# Altium integrated library Lattice SC FPGA.IntLib: 396 symbols (part 1 of 3)
Pins are listed as number, name and electrical type; pins without a type are passive.

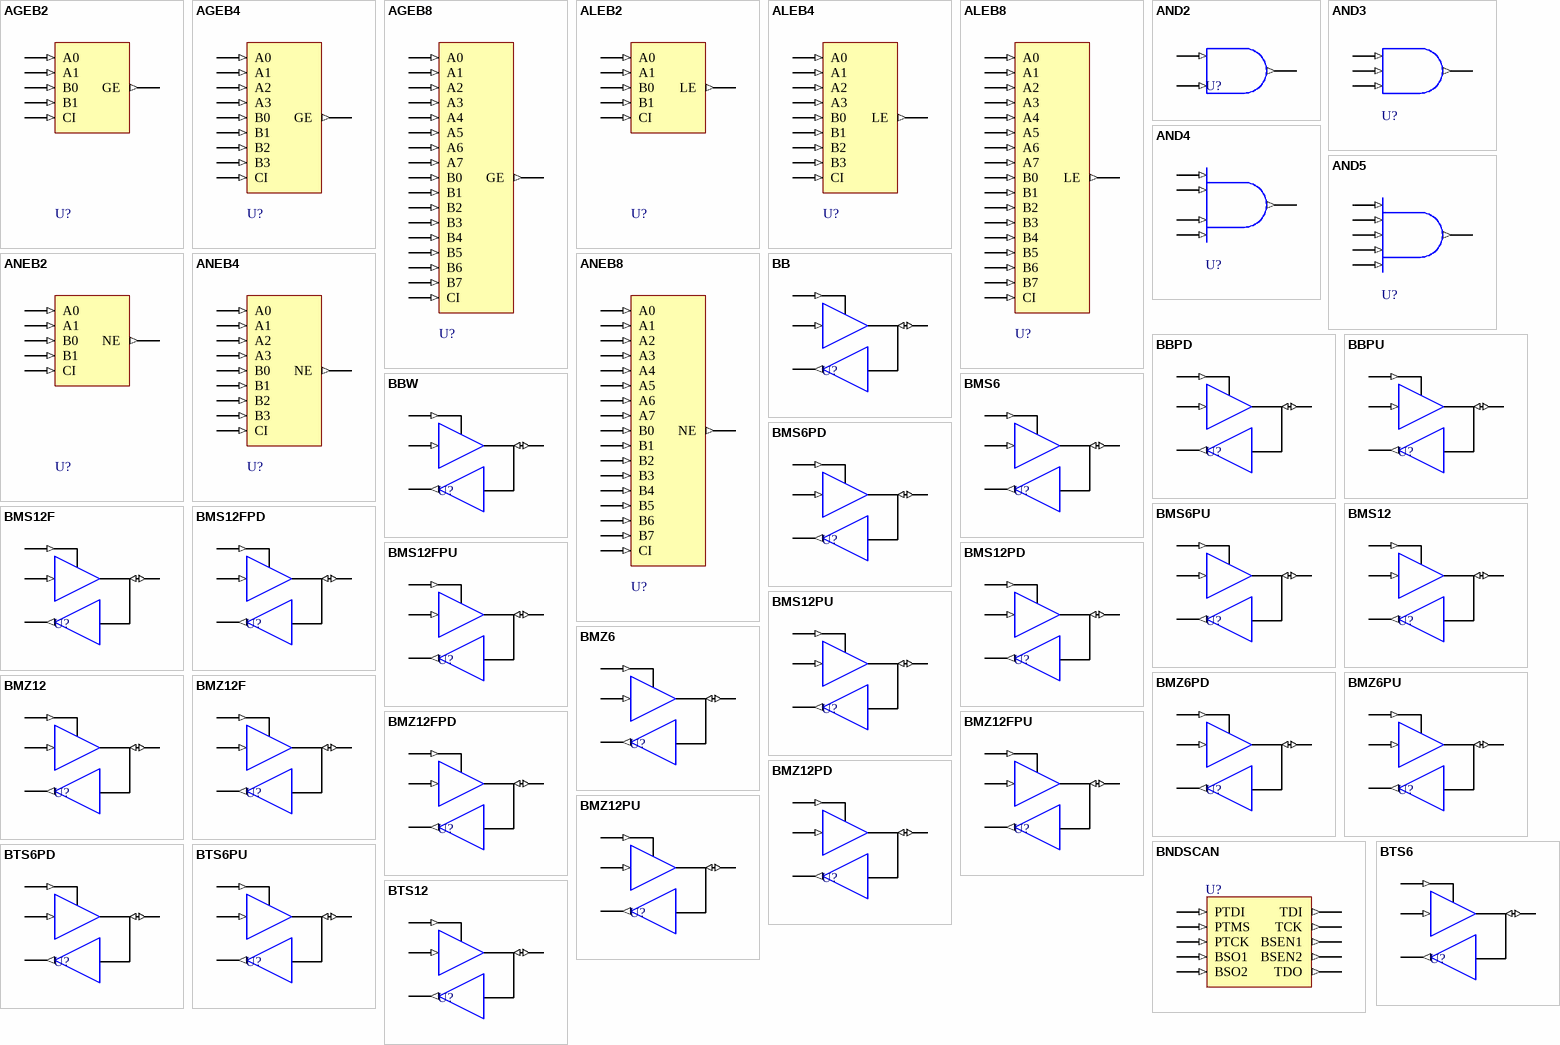
[diagram p0: symbols AGEB2 to BTS12]

## AGEB2
designator U?
“A” Greater Than Or Equal To “B” (2 bit); FPGAVendor: Lattice; Published: 4-May-2007; Publisher: Altium Limited; HelpURL: http://www.latticesemi.com/lit/docs/manuals/library.pdf
pins: A0 (in), A1 (in), B0 (in), B1 (in), CI (in), GE (out)

## AGEB4
designator U?
"A" Greater Than Or Equal To "B" (4 Bit); FPGAVendor: Lattice; Published: 4-May-2007; Publisher: Altium Limited; HelpURL: http://www.latticesemi.com/lit/docs/manuals/library.pdf
pins: A0 (in), A1 (in), A2 (in), A3 (in), B0 (in), B1 (in), B2 (in), B3 (in), CI (in), GE (out)

## AGEB8
designator U?
"A" Greater Than Or Equal To "B" (8 Bit); FPGAVendor: Lattice; Published: 4-May-2007; Publisher: Altium Limited; HelpURL: http://www.latticesemi.com/lit/docs/manuals/library.pdf
pins: A0 (in), A1 (in), A2 (in), A3 (in), A4 (in), A5 (in), A6 (in), A7 (in), B0 (in), B1 (in), B2 (in), B3 (in), B4 (in), B5 (in), B6 (in), B7 (in), CI (in), GE (out)

## ALEB2
designator U?
"A” Less Than Or Equal To "B” (2 bit); FPGAVendor: Lattice; Published: 4-May-2007; Publisher: Altium Limited; HelpURL: http://www.latticesemi.com/lit/docs/manuals/library.pdf
pins: A0 (in), A1 (in), B0 (in), B1 (in), CI (in), LE (out)

## ALEB4
designator U?
"A” Less Than Or Equal To "B” (4 bit); FPGAVendor: Lattice; Published: 4-May-2007; Publisher: Altium Limited; HelpURL: http://www.latticesemi.com/lit/docs/manuals/library.pdf
pins: A0 (in), A1 (in), A2 (in), A3 (in), B0 (in), B1 (in), B2 (in), B3 (in), CI (in), LE (out)

## ALEB8
designator U?
"A” Less Than Or Equal To "B” (8 bit); FPGAVendor: Lattice; Published: 4-May-2007; Publisher: Altium Limited; HelpURL: http://www.latticesemi.com/lit/docs/manuals/library.pdf
pins: A0 (in), A1 (in), A2 (in), A3 (in), A4 (in), A5 (in), A6 (in), A7 (in), B0 (in), B1 (in), B2 (in), B3 (in), B4 (in), B5 (in), B6 (in), B7 (in), CI (in), LE (out)

## AND2
designator U?
2 Input AND Gate; FPGAVendor: Lattice; Published: 4-May-2007; Publisher: Altium Limited; HelpURL: http://www.latticesemi.com/lit/docs/manuals/library.pdf
pins: A (in), B (in), Z (out)

## AND3
designator U?
3 Input AND Gate; FPGAVendor: Lattice; Published: 4-May-2007; Publisher: Altium Limited; HelpURL: http://www.latticesemi.com/lit/docs/manuals/library.pdf
pins: A (in), B (in), C (in), Z (out)

## AND4
designator U?
4 Input AND Gate; FPGAVendor: Lattice; Published: 4-May-2007; Publisher: Altium Limited; HelpURL: http://www.latticesemi.com/lit/docs/manuals/library.pdf
pins: A (in), B (in), C (in), D (in), Z (out)

## AND5
designator U?
5 Input AND Gate; FPGAVendor: Lattice; Published: 4-May-2007; Publisher: Altium Limited; HelpURL: http://www.latticesemi.com/lit/docs/manuals/library.pdf
pins: A (in), B (in), C (in), D (in), E (in), Z (out)

## ANEB2
designator U?
"A” Not Equal To "B” (2 bit); FPGAVendor: Lattice; Published: 4-May-2007; Publisher: Altium Limited; HelpURL: http://www.latticesemi.com/lit/docs/manuals/library.pdf
pins: A0 (in), A1 (in), B0 (in), B1 (in), CI (in), NE (out)

## ANEB4
designator U?
"A” Not Equal To "B” (4 bit); FPGAVendor: Lattice; Published: 4-May-2007; Publisher: Altium Limited; HelpURL: http://www.latticesemi.com/lit/docs/manuals/library.pdf
pins: A0 (in), A1 (in), A2 (in), A3 (in), B0 (in), B1 (in), B2 (in), B3 (in), CI (in), NE (out)

## ANEB8
designator U?
"A” Not Equal To "B” (8 bit); FPGAVendor: Lattice; Published: 4-May-2007; Publisher: Altium Limited; HelpURL: http://www.latticesemi.com/lit/docs/manuals/library.pdf
pins: A0 (in), A1 (in), A2 (in), A3 (in), A4 (in), A5 (in), A6 (in), A7 (in), B0 (in), B1 (in), B2 (in), B3 (in), B4 (in), B5 (in), B6 (in), B7 (in), CI (in), NE (out)

## BB
designator U?
CMOS Input 6mA Sink 3mA Source Sinklim Output Buffer with Tristate – BiDirectional; FPGAVendor: Lattice; Published: 4-May-2007; Publisher: Altium Limited; HelpURL: http://www.latticesemi.com/lit/docs/manuals/library.pdf
pins: B (io), I (in), O (out), T (in)

## BBPD
designator U?
CMOS Input 6mA Sink 3mA Source Sinklim Output Buffer with Tristate and Pull-down – BiDirectional; FPGAVendor: Lattice; Published: 4-May-2007; Publisher: Altium Limited; HelpURL: http://www.latticesemi.com/lit/docs/manuals/library.pdf
pins: B (io), I (in), O (out), T (in)

## BBPU
designator U?
CMOS Input 6mA Sink 3mA Source Sinklim Output Buffer with Tristate and Pull-up – BiDirectional; FPGAVendor: Lattice; Published: 4-May-2007; Publisher: Altium Limited; HelpURL: http://www.latticesemi.com/lit/docs/manuals/library.pdf
pins: B (io), I (in), O (out), T (in)

## BBW
designator U?
CMOS Input 6mA Sink 3mA Source Sinklim Output Buffer with Tristate – BiDirectional in keepermode; FPGAVendor: Lattice; Published: 4-May-2007; Publisher: Altium Limited; HelpURL: http://www.latticesemi.com/lit/docs/manuals/library.pdf
pins: B (io), I (in), O (out), T (in)

## BMS6
designator U?
CMOS Delayed Input 6mA Sink 3mA Source Sinklim Output Buffer with Tristate – BiDirectional; FPGAVendor: Lattice; Published: 4-May-2007; Publisher: Altium Limited; HelpURL: http://www.latticesemi.com/lit/docs/manuals/library.pdf
pins: B (io), I (in), O (out), T (in)

## BMS6PD
designator U?
CMOS Delayed Input 6mA Sink 3mA Source Sinklim Output Buffer with Tristate and Pull-down – BiDirectional; FPGAVendor: Lattice; Published: 4-May-2007; Publisher: Altium Limited; HelpURL: http://www.latticesemi.com/lit/docs/manuals/library.pdf
pins: B (io), I (in), O (out), T (in)

## BMS6PU
designator U?
CMOS Delayed Input 6mA Sink 3mA Source Sinklim Output Buffer with Tristate and Pull-up – BiDirectional; FPGAVendor: Lattice; Published: 4-May-2007; Publisher: Altium Limited; HelpURL: http://www.latticesemi.com/lit/docs/manuals/library.pdf
pins: B (io), I (in), O (out), T (in)

## BMS12
designator U?
CMOS Delayed Input 12mA Sink 6mA Source Slewlim Output Buffer with Tristate – BiDirectional; FPGAVendor: Lattice; Published: 4-May-2007; Publisher: Altium Limited; HelpURL: http://www.latticesemi.com/lit/docs/manuals/library.pdf
pins: B (io), I (in), O (out), T (in)

## BMS12F
designator U?
CMOS Delayed Input 12mA Sink 6mA Source Fast Output Buffer with Tristate – BiDirectional; FPGAVendor: Lattice; Published: 4-May-2007; Publisher: Altium Limited; HelpURL: http://www.latticesemi.com/lit/docs/manuals/library.pdf
pins: B (io), I (in), O (out), T (in)

## BMS12FPD
designator U?
CMOS Delayed Input 12mA Sink 6mA Source Fast Output Buffer with Tristate and Pull-down – BiDirectional; FPGAVendor: Lattice; Published: 4-May-2007; Publisher: Altium Limited; HelpURL: http://www.latticesemi.com/lit/docs/manuals/library.pdf
pins: B (io), I (in), O (out), T (in)

## BMS12FPU
designator U?
CMOS Delayed Input 12mA Sink 6mA Source Fast Output Buffer with Tristate and Pull-up – BiDirectional; FPGAVendor: Lattice; Published: 4-May-2007; Publisher: Altium Limited; HelpURL: http://www.latticesemi.com/lit/docs/manuals/library.pdf
pins: B (io), I (in), O (out), T (in)

## BMS12PD
designator U?
CMOS Delayed Input 12mA Sink 6mA Source Slewlim Output Buffer with Tristate and Pull-down – BiDirectional; FPGAVendor: Lattice; Published: 4-May-2007; Publisher: Altium Limited; HelpURL: http://www.latticesemi.com/lit/docs/manuals/library.pdf
pins: B (io), I (in), O (out), T (in)

## BMS12PU
designator U?
CMOS Delayed Input 12mA Sink 6mA Source Slewlim Output Buffer with Tristate and Pull-up – BiDirectional; FPGAVendor: Lattice; Published: 4-May-2007; Publisher: Altium Limited; HelpURL: http://www.latticesemi.com/lit/docs/manuals/library.pdf
pins: B (io), I (in), O (out), T (in)

## BMZ6
designator U?
CMOS Input 6mA Sink 3mA Source Sinklim Output Buffer with Tristate – BiDirectional; FPGAVendor: Lattice; Published: 4-May-2007; Publisher: Altium Limited; HelpURL: http://www.latticesemi.com/lit/docs/manuals/library.pdf
pins: B (io), I (in), O (out), T (in)

## BMZ6PD
designator U?
CMOS Input 6mA Sink 3mA Source Sinklim Output Buffer with Tristate and Pull-down – BiDirectional; FPGAVendor: Lattice; Published: 4-May-2007; Publisher: Altium Limited; HelpURL: http://www.latticesemi.com/lit/docs/manuals/library.pdf
pins: B (io), I (in), O (out), T (in)

## BMZ6PU
designator U?
CMOS Input 6mA Sink 3mA Source Sinklim Output Buffer with Tristate and Pull-up – BiDirectional; FPGAVendor: Lattice; Published: 4-May-2007; Publisher: Altium Limited; HelpURL: http://www.latticesemi.com/lit/docs/manuals/library.pdf
pins: B (io), I (in), O (out), T (in)

## BMZ12
designator U?
CMOS Input 12mA Sink 6mA Source Slewlim Output Buffer with Tristate – BiDirectional; FPGAVendor: Lattice; Published: 4-May-2007; Publisher: Altium Limited; HelpURL: http://www.latticesemi.com/lit/docs/manuals/library.pdf
pins: B (io), I (in), O (out), T (in)

## BMZ12F
designator U?
CMOS Input 12mA Sink 6mA Source Fast Output Buffer with Tristate – BiDirectional; FPGAVendor: Lattice; Published: 4-May-2007; Publisher: Altium Limited; HelpURL: http://www.latticesemi.com/lit/docs/manuals/library.pdf
pins: B (io), I (in), O (out), T (in)

## BMZ12FPD
designator U?
CMOS Input 12mA Sink 6mA Source Fast Output Buffer with Tristate and Pull-down – BiDirectional; FPGAVendor: Lattice; Published: 4-May-2007; Publisher: Altium Limited; HelpURL: http://www.latticesemi.com/lit/docs/manuals/library.pdf
pins: B (io), I (in), O (out), T (in)

## BMZ12FPU
designator U?
CMOS Input 12mA Sink 6mA Source Fast Output Buffer with Tristate and Pull-up – BiDirectional; FPGAVendor: Lattice; Published: 4-May-2007; Publisher: Altium Limited; HelpURL: http://www.latticesemi.com/lit/docs/manuals/library.pdf
pins: B (io), I (in), O (out), T (in)

## BMZ12PD
designator U?
CMOS Input 12mA Sink 6mA Source Slewlim Output Buffer with Tristate and Pull-down – BiDirectional; FPGAVendor: Lattice; Published: 4-May-2007; Publisher: Altium Limited; HelpURL: http://www.latticesemi.com/lit/docs/manuals/library.pdf
pins: B (io), I (in), O (out), T (in)

## BMZ12PU
designator U?
CMOS Input 12mA Sink 6mA Source Slewlim Output Buffer with Tristate and Pull-up –BiDirectional; FPGAVendor: Lattice; Published: 4-May-2007; Publisher: Altium Limited; HelpURL: http://www.latticesemi.com/lit/docs/manuals/library.pdf
pins: B (io), I (in), O (out), T (in)

## BNDSCAN
designator U?
Boundary Scan — Logic Control Circuit; FPGAVendor: Lattice; Published: 4-May-2007; Publisher: Altium Limited; HelpURL: http://www.latticesemi.com/lit/docs/manuals/library.pdf
pins: BSEN1 (out), BSEN2 (out), BSO1 (in), BSO2 (in), PTCK (in), PTDI (in), PTMS (in), TCK (out), TDI (out), TDO (out)

## BTS6
designator U?
TTL Delayed Input 6mA Sink 3mA Source Sinklim Output Buffer with Tristate – BiDirectional; FPGAVendor: Lattice; Published: 4-May-2007; Publisher: Altium Limited; HelpURL: http://www.latticesemi.com/lit/docs/manuals/library.pdf
pins: B (io), I (in), O (out), T (in)

## BTS6PD
designator U?
TTL Delayed Input 6mA Sink 3mA Source Sinklim Output Buffer with Tristate and Pull-down – BiDirectional; FPGAVendor: Lattice; Published: 4-May-2007; Publisher: Altium Limited; HelpURL: http://www.latticesemi.com/lit/docs/manuals/library.pdf
pins: B (io), I (in), O (out), T (in)

## BTS6PU
designator U?
TTL Delayed Input 6mA Sink 3mA Source Sinklim Output Buffer with Tristate and Pull-up – BiDirectional; FPGAVendor: Lattice; Published: 4-May-2007; Publisher: Altium Limited; HelpURL: http://www.latticesemi.com/lit/docs/manuals/library.pdf
pins: B (io), I (in), O (out), T (in)

## BTS12
designator U?
TTL Delayed Input 12mA Sink 6mA Source Slewlim Output Buffer with Tristate – BiDirectional; FPGAVendor: Lattice; Published: 4-May-2007; Publisher: Altium Limited; HelpURL: http://www.latticesemi.com/lit/docs/manuals/library.pdf
pins: B (io), I (in), O (out), T (in)

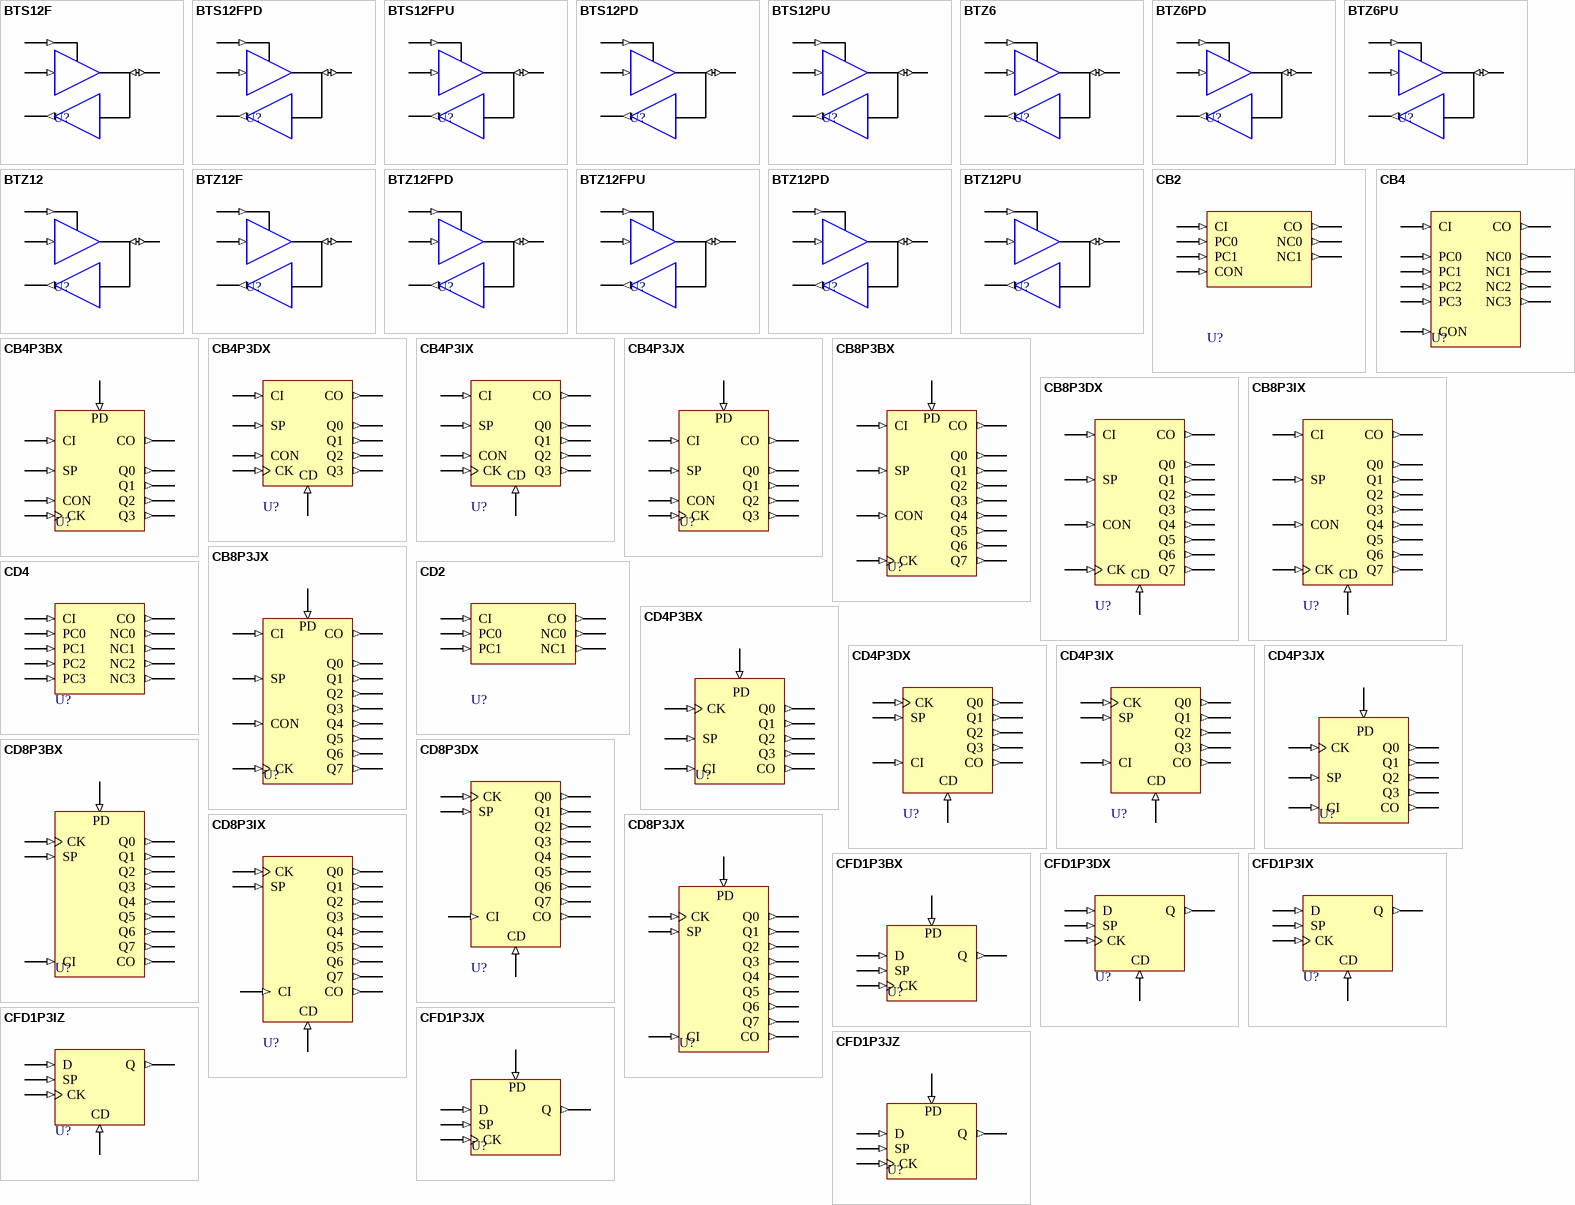
[diagram p1: symbols BTS12F to CFD1P3JZ]

## BTS12F
designator U?
TTL Delayed Input 12mA Sink 6mA Source Fast Output Buffer with Tristate – BiDirectional; FPGAVendor: Lattice; Published: 4-May-2007; Publisher: Altium Limited; HelpURL: http://www.latticesemi.com/lit/docs/manuals/library.pdf
pins: B (io), I (in), O (out), T (in)

## BTS12FPD
designator U?
TTL Delayed Input 12mA Sink 6mA Source Fast Output Buffer with Tristate and Pull-down – BiDirectional; FPGAVendor: Lattice; Published: 4-May-2007; Publisher: Altium Limited; HelpURL: http://www.latticesemi.com/lit/docs/manuals/library.pdf
pins: B (io), I (in), O (out), T (in)

## BTS12FPU
designator U?
TTL Delayed Input 12mA Sink 6mA Source Fast Output Buffer with Tristate and Pull-up – BiDirectional; FPGAVendor: Lattice; Published: 4-May-2007; Publisher: Altium Limited; HelpURL: http://www.latticesemi.com/lit/docs/manuals/library.pdf
pins: B (io), I (in), O (out), T (in)

## BTS12PD
designator U?
TTL Delayed Input 12mA Sink 6mA Source Slewlim Output Buffer with Tristate and Pull-down – BiDirectional; FPGAVendor: Lattice; Published: 4-May-2007; Publisher: Altium Limited; HelpURL: http://www.latticesemi.com/lit/docs/manuals/library.pdf
pins: B (io), I (in), O (out), T (in)

## BTS12PU
designator U?
TTL Delayed Input 12mA Sink 6mA Source Slewlim Output Buffer with Tristate and Pull-up – BiDirectional; FPGAVendor: Lattice; Published: 4-May-2007; Publisher: Altium Limited; HelpURL: http://www.latticesemi.com/lit/docs/manuals/library.pdf
pins: B (io), I (in), O (out), T (in)

## BTZ6
designator U?
TTL Input 6mA Sink 3mA Source Sinklim Output Buffer with Tristate – BiDirectional; FPGAVendor: Lattice; Published: 4-May-2007; Publisher: Altium Limited; HelpURL: http://www.latticesemi.com/lit/docs/manuals/library.pdf
pins: B (io), I (in), O (out), T (in)

## BTZ6PD
designator U?
TTL Input 6mA Sink 3mA Source Sinklim Output Buffer with Tristate and Pull-down – BiDirectional; FPGAVendor: Lattice; Published: 4-May-2007; Publisher: Altium Limited; HelpURL: http://www.latticesemi.com/lit/docs/manuals/library.pdf
pins: B (io), I (in), O (out), T (in)

## BTZ6PU
designator U?
TTL Input 6mA Sink 3mA Source Sinklim Output Buffer with Tristate and Pull-up – BiDirectional; FPGAVendor: Lattice; Published: 4-May-2007; Publisher: Altium Limited; HelpURL: http://www.latticesemi.com/lit/docs/manuals/library.pdf
pins: B (io), I (in), O (out), T (in)

## BTZ12
designator U?
TTL Input 12mA Sink 6mA Source Slewlim Output Buffer with Tristate – BiDirectional; FPGAVendor: Lattice; Published: 4-May-2007; Publisher: Altium Limited; HelpURL: http://www.latticesemi.com/lit/docs/manuals/library.pdf
pins: B (io), I (in), O (out), T (in)

## BTZ12F
designator U?
TTL Input 12mA Sink 6mA Source Fast Output Buffer with Tristate – BiDirectional; FPGAVendor: Lattice; Published: 4-May-2007; Publisher: Altium Limited; HelpURL: http://www.latticesemi.com/lit/docs/manuals/library.pdf
pins: B (io), I (in), O (out), T (in)

## BTZ12FPD
designator U?
TTL Input 12mA Sink 6mA Source Fast Output Buffer with Tristate and Pull-down – BiDirectional; FPGAVendor: Lattice; Published: 4-May-2007; Publisher: Altium Limited; HelpURL: http://www.latticesemi.com/lit/docs/manuals/library.pdf
pins: B (io), I (in), O (out), T (in)

## BTZ12FPU
designator U?
TTL Input 12mA Sink 6mA Source Fast Output Buffer with Tristate and Pull-up – BiDirectional; FPGAVendor: Lattice; Published: 4-May-2007; Publisher: Altium Limited; HelpURL: http://www.latticesemi.com/lit/docs/manuals/library.pdf
pins: B (io), I (in), O (out), T (in)

## BTZ12PD
designator U?
TTL Input 12mA Sink 6mA Source Slewlim Output Buffer with Tristate and Pull-down – BiDirectional; FPGAVendor: Lattice; Published: 4-May-2007; Publisher: Altium Limited; HelpURL: http://www.latticesemi.com/lit/docs/manuals/library.pdf
pins: B (io), I (in), O (out), T (in)

## BTZ12PU
designator U?
TTL Input 12mA Sink 6mA Source Slewlim Output Buffer with Tristate and Pull-up– BiDirectional; FPGAVendor: Lattice; Published: 4-May-2007; Publisher: Altium Limited; HelpURL: http://www.latticesemi.com/lit/docs/manuals/library.pdf
pins: B (io), I (in), O (out), T (in)

## CB2
designator U?
Combinational Logic for 2-Bit Bidirectional Counter using Look-Up Table; FPGAVendor: Lattice; Published: 4-May-2007; Publisher: Altium Limited; HelpURL: http://www.latticesemi.com/lit/docs/manuals/library.pdf
pins: CI (in), CO (out), CON (in), NC0 (out), NC1 (out), PC0 (in), PC1 (in)

## CB4
designator U?
Combinational Logic for 4 Bit Bidirectional Counter using Look-Up Table; FPGAVendor: Lattice; Published: 4-May-2007; Publisher: Altium Limited; HelpURL: http://www.latticesemi.com/lit/docs/manuals/library.pdf
pins: CI (in), CO (out), CON (in), NC0 (out), NC1 (out), NC2 (out), NC3 (out), PC0 (in), PC1 (in), PC2 (in), PC3 (in)

## CB4P3BX
designator U?
4 Bit Positive Edge Triggered Bidirectional Counter with Positive Clock Enable and Positive Asynchronous Preset; FPGAVendor: Lattice; Published: 4-May-2007; Publisher: Altium Limited; HelpURL: http://www.latticesemi.com/lit/docs/manuals/library.pdf
pins: CI (in), CK (in), CO (out), CON (in), PD (in), Q0 (out), Q1 (out), Q2 (out), Q3 (out), SP (in)

## CB4P3DX
designator U?
4 Bit Positive Edge Triggered Bidirectional Counter with Positive Clock Enable and Positive Asynchronous Clear; FPGAVendor: Lattice; Published: 4-May-2007; Publisher: Altium Limited; HelpURL: http://www.latticesemi.com/lit/docs/manuals/library.pdf
pins: CD (in), CI (in), CK (in), CO (out), CON (in), Q0 (out), Q1 (out), Q2 (out), Q3 (out), SP (in)

## CB4P3IX
designator U?
4 Bit Positive Edge Triggered Bidirectional Counter with Positive Clock Enable and Positive Synchronous Clear; FPGAVendor: Lattice; Published: 4-May-2007; Publisher: Altium Limited; HelpURL: http://www.latticesemi.com/lit/docs/manuals/library.pdf
pins: CD (in), CI (in), CK (in), CO (out), CON (in), Q0 (out), Q1 (out), Q2 (out), Q3 (out), SP (in)

## CB4P3JX
designator U?
4 Bit Positive Edge Triggered Bidirectional Counter with Positive Clock Enable and Positive Synchronous Preset; FPGAVendor: Lattice; Published: 4-May-2007; Publisher: Altium Limited; HelpURL: http://www.latticesemi.com/lit/docs/manuals/library.pdf
pins: CI (in), CK (in), CO (out), CON (in), PD (in), Q0 (out), Q1 (out), Q2 (out), Q3 (out), SP (in)

## CB8P3BX
designator U?
8 Bit Positive Edge Triggered Bidirectional Counter with Positive Clock Enable and Positive Asynchronous Preset; FPGAVendor: Lattice; Published: 4-May-2007; Publisher: Altium Limited; HelpURL: http://www.latticesemi.com/lit/docs/manuals/library.pdf
pins: CI (in), CK (in), CO (out), CON (in), PD (in), Q0 (out), Q1 (out), Q2 (out), Q3 (out), Q4 (out), Q5 (out), Q6 (out), Q7 (out), SP (in)

## CB8P3DX
designator U?
8 Bit Positive Edge Triggered Bidirectional Counter with Positive Clock Enable and Positive Asynchronous Clear; FPGAVendor: Lattice; Published: 4-May-2007; Publisher: Altium Limited; HelpURL: http://www.latticesemi.com/lit/docs/manuals/library.pdf
pins: CD (in), CI (in), CK (in), CO (out), CON (in), Q0 (out), Q1 (out), Q2 (out), Q3 (out), Q4 (out), Q5 (out), Q6 (out), Q7 (out), SP (in)

## CB8P3IX
designator U?
8 Bit Positive Edge Triggered Bidirectional Counter with Positive Clock Enable and Positive Synchronous Clear; FPGAVendor: Lattice; Published: 4-May-2007; Publisher: Altium Limited; HelpURL: http://www.latticesemi.com/lit/docs/manuals/library.pdf
pins: CD (in), CI (in), CK (in), CO (out), CON (in), Q0 (out), Q1 (out), Q2 (out), Q3 (out), Q4 (out), Q5 (out), Q6 (out), Q7 (out), SP (in)

## CB8P3JX
designator U?
8 Bit Positive Edge Triggered Bidirectional Counter with Positive Clock Enable and Positive Synchronous Preset; FPGAVendor: Lattice; Published: 4-May-2007; Publisher: Altium Limited; HelpURL: http://www.latticesemi.com/lit/docs/manuals/library.pdf
pins: CI (in), CK (in), CO (out), CON (in), PD (in), Q0 (out), Q1 (out), Q2 (out), Q3 (out), Q4 (out), Q5 (out), Q6 (out), Q7 (out), SP (in)

## CD2
designator U?
Combinational Logic for 2-Bit Down-Counter using Look-Up Table; FPGAVendor: Lattice; Published: 4-May-2007; Publisher: Altium Limited; HelpURL: http://www.latticesemi.com/lit/docs/manuals/library.pdf
pins: CI (in), CO (out), NC0 (out), NC1 (out), PC0 (in), PC1 (in)

## CD4
designator U?
Combinational Logic for 4-Bit Down-Counter using Look-Up Table; FPGAVendor: Lattice; Published: 4-May-2007; Publisher: Altium Limited; HelpURL: http://www.latticesemi.com/lit/docs/manuals/library.pdf
pins: CI (in), CO (out), NC0 (out), NC1 (out), NC2 (out), NC3 (out), PC0 (in), PC1 (in), PC2 (in), PC3 (in)

## CD4P3BX
designator U?
4 Bit Positive Edge Triggered Fast Down-Counter with Positive Clock Enable and Positive Asynchronous Preset; FPGAVendor: Lattice; Published: 4-May-2007; Publisher: Altium Limited; HelpURL: http://www.latticesemi.com/lit/docs/manuals/library.pdf
pins: CI (in), CK (in), CO (out), PD (in), Q0 (out), Q1 (out), Q2 (out), Q3 (out), SP (in)

## CD4P3DX
designator U?
4 Bit Positive Edge Triggered Fast Down-Counter with Positive Clock Enable and Positive Asynchronous Clear; FPGAVendor: Lattice; Published: 4-May-2007; Publisher: Altium Limited; HelpURL: http://www.latticesemi.com/lit/docs/manuals/library.pdf
pins: CD (in), CI (in), CK (in), CO (out), Q0 (out), Q1 (out), Q2 (out), Q3 (out), SP (in)

## CD4P3IX
designator U?
4 Bit Positive Edge Triggered Fast Down-Counter with Positive Clock Enable and Positive Synchronous Clear; FPGAVendor: Lattice; Published: 4-May-2007; Publisher: Altium Limited; HelpURL: http://www.latticesemi.com/lit/docs/manuals/library.pdf
pins: CD (in), CI (in), CK (in), CO (out), Q0 (out), Q1 (out), Q2 (out), Q3 (out), SP (in)

## CD4P3JX
designator U?
4 Bit Positive Edge Triggered Fast Down-Counter with Positive Clock Enable and Positive Synchronous Preset; FPGAVendor: Lattice; Published: 4-May-2007; Publisher: Altium Limited; HelpURL: http://www.latticesemi.com/lit/docs/manuals/library.pdf
pins: CI (in), CK (in), CO (out), PD (in), Q0 (out), Q1 (out), Q2 (out), Q3 (out), SP (in)

## CD8P3BX
designator U?
8 Bit Positive Edge Triggered Fast Down-Counter with Positive Clock Enable and Positive Asynchronous Preset; FPGAVendor: Lattice; Published: 4-May-2007; Publisher: Altium Limited; HelpURL: http://www.latticesemi.com/lit/docs/manuals/library.pdf
pins: CI (in), CK (in), CO (out), PD (in), Q0 (out), Q1 (out), Q2 (out), Q3 (out), Q4 (out), Q5 (out), Q6 (out), Q7 (out), SP (in)

## CD8P3DX
designator U?
8 Bit Positive Edge Triggered Fast Down-Counter with Positive Clock Enable and Positive Asynchronous Clear; FPGAVendor: Lattice; Published: 4-May-2007; Publisher: Altium Limited; HelpURL: http://www.latticesemi.com/lit/docs/manuals/library.pdf
pins: CD (in), CI (in), CK (in), CO (out), Q0 (out), Q1 (out), Q2 (out), Q3 (out), Q4 (out), Q5 (out), Q6 (out), Q7 (out), SP (in)

## CD8P3IX
designator U?
8 Bit Positive Edge Triggered Fast Down-Counter with Positive Clock Enable and Positive Synchronous Clear; FPGAVendor: Lattice; Published: 4-May-2007; Publisher: Altium Limited; HelpURL: http://www.latticesemi.com/lit/docs/manuals/library.pdf
pins: CD (in), CI (in), CK (in), CO (out), Q0 (out), Q1 (out), Q2 (out), Q3 (out), Q4 (out), Q5 (out), Q6 (out), Q7 (out), SP (in)

## CD8P3JX
designator U?
8 Bit Positive Edge Triggered Fast Down-Counter with Positive Clock Enable and Positive Synchronous Preset; FPGAVendor: Lattice; Published: 4-May-2007; Publisher: Altium Limited; HelpURL: http://www.latticesemi.com/lit/docs/manuals/library.pdf
pins: CI (in), CK (in), CO (out), PD (in), Q0 (out), Q1 (out), Q2 (out), Q3 (out), Q4 (out), Q5 (out), Q6 (out), Q7 (out), SP (in)

## CFD1P3BX
designator U?
Positive Edge Triggered D Flip-Flop with Positive Level Enable and Positive Level Asynchronous Preset (used as 9th flip-flop in the PLC only); FPGAVendor: Lattice; Published: 4-May-2007; Publisher: Altium Limited; HelpURL: http://www.latticesemi.com/lit/docs/manuals/library.pdf
pins: CK (in), D (in), PD (in), Q (out), SP (in)

## CFD1P3DX
designator U?
Positive Edge Triggered D Flip-Flop with Positive Level Enable and Positive Level Asynchronous Clear (used as 9th flip-flop in the PLC only); FPGAVendor: Lattice; Published: 4-May-2007; Publisher: Altium Limited; HelpURL: http://www.latticesemi.com/lit/docs/manuals/library.pdf
pins: CD (in), CK (in), D (in), Q (out), SP (in)

## CFD1P3IX
designator U?
Positive Edge Triggered D Flip-Flop with Positive Level Synchronous Clear and Positive Level Enable (Clear overrides Enable) (used as 9th flip-flop in the PLC only); FPGAVendor: Lattice; Published: 4-May-2007; Publisher: Altium Limited; HelpURL: http://www.latticesemi.com/lit/docs/manuals/library.pdf
pins: CD (in), CK (in), D (in), Q (out), SP (in)

## CFD1P3IZ
designator U?
Positive Edge Triggered D Flip-Flop with Positive Level Enable and Positive Level Synchronous Clear (used as 9th flip-flop in the PLC only); FPGAVendor: Lattice; Published: 4-May-2007; Publisher: Altium Limited; HelpURL: http://www.latticesemi.com/lit/docs/manuals/library.pdf
pins: CD (in), CK (in), D (in), Q (out), SP (in)

## CFD1P3JX
designator U?
Positive Edge Triggered D Flip-Flop with Positive Level Synchronous Preset and Positive Level Enable (Preset overrides Enable) (used as 9th flip-flop in the PLC only); FPGAVendor: Lattice; Published: 4-May-2007; Publisher: Altium Limited; HelpURL: http://www.latticesemi.com/lit/docs/manuals/library.pdf
pins: CK (in), D (in), PD (in), Q (out), SP (in)

## CFD1P3JZ
designator U?
Positive Edge Triggered D Flip-Flop with Positive Level Enable and Positive Level Synchronous Preset (used as 9th flip-flop in the PLC only); FPGAVendor: Lattice; Published: 4-May-2007; Publisher: Altium Limited; HelpURL: http://www.latticesemi.com/lit/docs/manuals/library.pdf
pins: CK (in), D (in), PD (in), Q (out), SP (in)

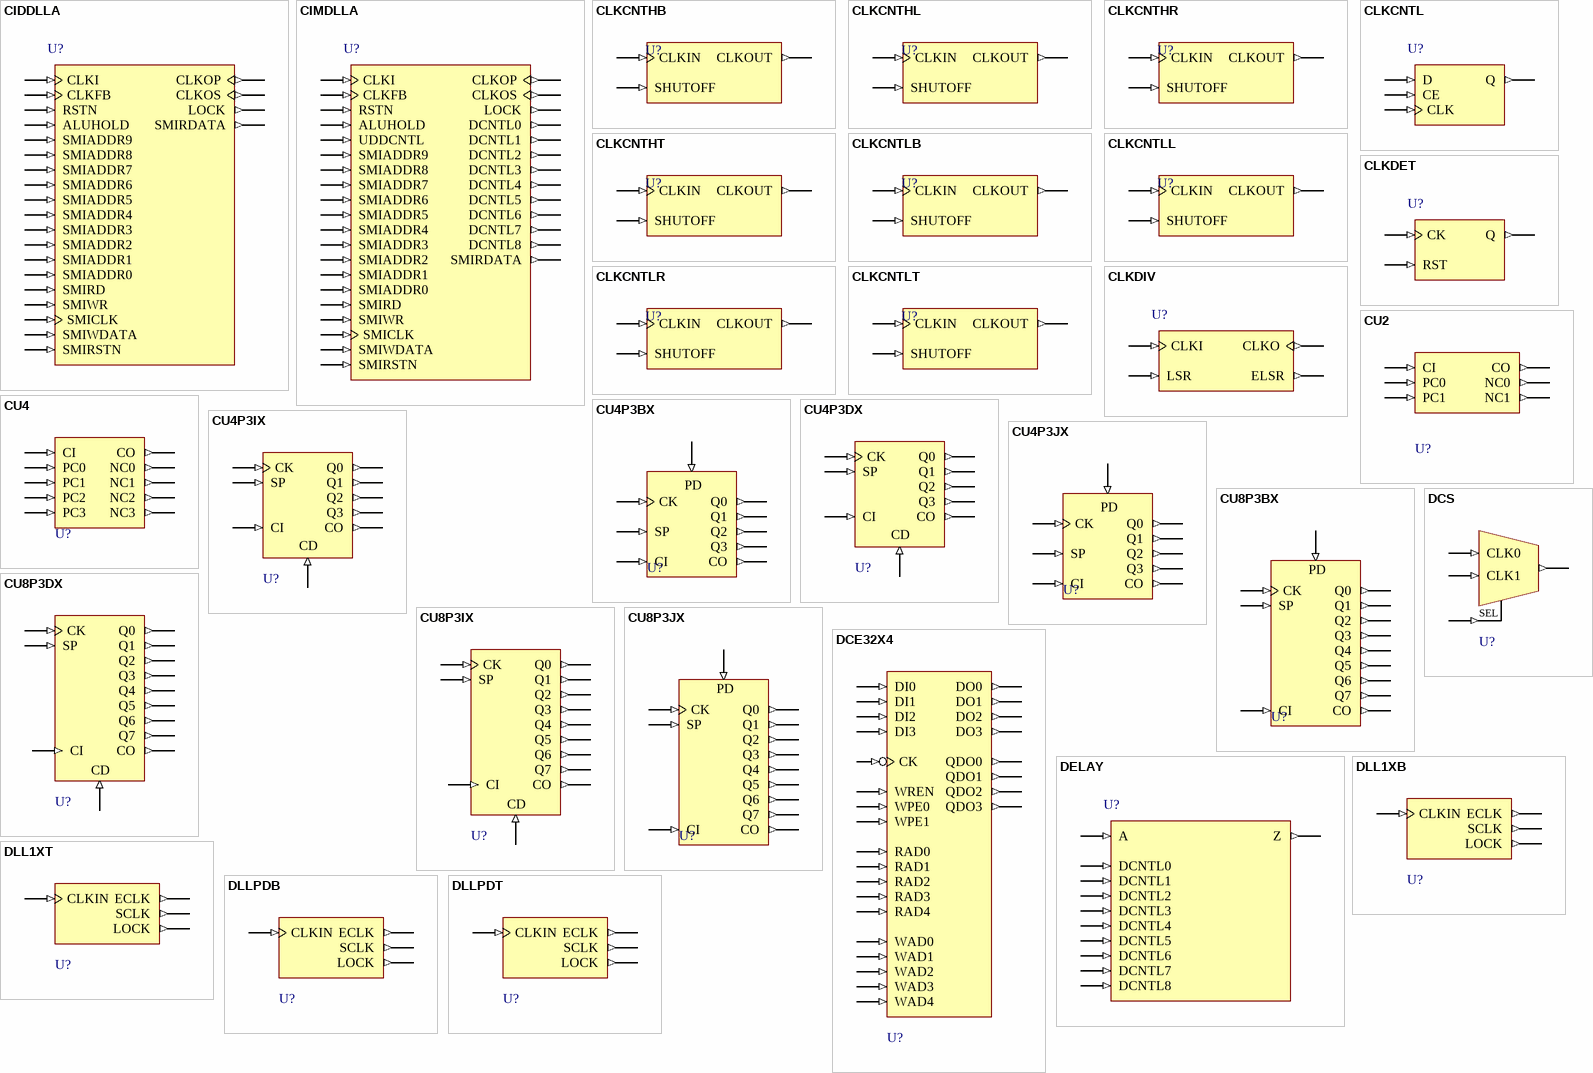
[diagram p2: symbols CIDDLLA to DLLPDT]

## CIDDLLA
designator U?
Clock Injection Delay Removal; FPGAVendor: Lattice; Published: 4-May-2007; Publisher: Altium Limited; HelpURL: http://www.latticesemi.com/lit/docs/manuals/library.pdf
pins: ALUHOLD (in), CLKFB (in), CLKI (in), CLKOP (out), CLKOS (out), LOCK (out), RSTN (in), SMIADDR0 (in), SMIADDR1 (in), SMIADDR2 (in), SMIADDR3 (in), SMIADDR4 (in), SMIADDR5 (in), SMIADDR6 (in), SMIADDR7 (in), SMIADDR8 (in), SMIADDR9 (in), SMICLK (in), SMIRD (in), SMIRDATA (out), SMIRSTN (in), SMIWDATA (in), SMIWR (in)

## CIMDLLA
designator U?
Clock Injection Match; FPGAVendor: Lattice; Published: 4-May-2007; Publisher: Altium Limited; HelpURL: http://www.latticesemi.com/lit/docs/manuals/library.pdf
pins: ALUHOLD (in), CLKFB (in), CLKI (in), CLKOP (out), CLKOS (out), DCNTL0 (out), DCNTL1 (out), DCNTL2 (out), DCNTL3 (out), DCNTL4 (out), DCNTL5 (out), DCNTL6 (out), DCNTL7 (out), DCNTL8 (out), LOCK (out), RSTN (in), SMIADDR0 (in), SMIADDR1 (in), SMIADDR2 (in), SMIADDR3 (in), SMIADDR4 (in), SMIADDR5 (in), SMIADDR6 (in), SMIADDR7 (in), SMIADDR8 (in), SMIADDR9 (in), SMICLK (in), SMIRD (in), SMIRDATA (out), SMIRSTN (in), SMIWDATA (in), SMIWR (in), UDDCNTL (in)

## CLKCNTHB
designator U?
Clock Controller at Mid Site Used to Provide Ability to Shut Off the Clock in a high state; FPGAVendor: Lattice; Published: 4-May-2007; Publisher: Altium Limited; HelpURL: http://www.latticesemi.com/lit/docs/manuals/library.pdf
pins: CLKIN (in), CLKOUT (out), SHUTOFF (in)

## CLKCNTHL
designator U?
Clock Controller at Mid Site Used to Provide Ability to Shut Off the Clock in a high state; FPGAVendor: Lattice; Published: 4-May-2007; Publisher: Altium Limited; HelpURL: http://www.latticesemi.com/lit/docs/manuals/library.pdf
pins: CLKIN (in), CLKOUT (out), SHUTOFF (in)

## CLKCNTHR
designator U?
Clock Controller at Mid Site Used to Provide Ability to Shut Off the Clock in a high state; FPGAVendor: Lattice; Published: 4-May-2007; Publisher: Altium Limited; HelpURL: http://www.latticesemi.com/lit/docs/manuals/library.pdf
pins: CLKIN (in), CLKOUT (out), SHUTOFF (in)

## CLKCNTHT
designator U?
Clock Controller at Mid Site Used to Provide Ability to Shut Off the Clock in a high state; FPGAVendor: Lattice; Published: 4-May-2007; Publisher: Altium Limited; HelpURL: http://www.latticesemi.com/lit/docs/manuals/library.pdf
pins: CLKIN (in), CLKOUT (out), SHUTOFF (in)

## CLKCNTL
designator U?
Clock Controller; FPGAVendor: Lattice; Published: 4-May-2007; Publisher: Altium Limited; HelpURL: http://www.latticesemi.com/lit/docs/manuals/library.pdf
pins: CE (in), CLK (in), D (in), Q (out)

## CLKCNTLB
designator U?
Clock Controller at Mid Site Used to Provide Ability to Shut Off the Clock; FPGAVendor: Lattice; Published: 4-May-2007; Publisher: Altium Limited; HelpURL: http://www.latticesemi.com/lit/docs/manuals/library.pdf
pins: CLKIN (in), CLKOUT (out), SHUTOFF (in)

## CLKCNTLL
designator U?
Clock Controller at Mid Site Used to Provide Ability to Shut Off the Clock; FPGAVendor: Lattice; Published: 4-May-2007; Publisher: Altium Limited; HelpURL: http://www.latticesemi.com/lit/docs/manuals/library.pdf
pins: CLKIN (in), CLKOUT (out), SHUTOFF (in)

## CLKCNTLR
designator U?
Clock Controller at Mid Site Used to Provide Ability to Shut Off the Clock; FPGAVendor: Lattice; Published: 4-May-2007; Publisher: Altium Limited; HelpURL: http://www.latticesemi.com/lit/docs/manuals/library.pdf
pins: CLKIN (in), CLKOUT (out), SHUTOFF (in)

## CLKCNTLT
designator U?
Clock Controller at Mid Site Used to Provide Ability to Shut Off the Clock; FPGAVendor: Lattice; Published: 4-May-2007; Publisher: Altium Limited; HelpURL: http://www.latticesemi.com/lit/docs/manuals/library.pdf
pins: CLKIN (in), CLKOUT (out), SHUTOFF (in)

## CLKDET
designator U?
Clock Detect; FPGAVendor: Lattice; Published: 4-May-2007; Publisher: Altium Limited; HelpURL: http://www.latticesemi.com/lit/docs/manuals/library.pdf
pins: CK (in), Q (out), RST (in)

## CLKDIV
designator U?
Clock Divider; FPGAVendor: Lattice; Published: 4-May-2007; Publisher: Altium Limited; HelpURL: http://www.latticesemi.com/lit/docs/manuals/library.pdf
pins: CLKI (in), CLKO (out), ELSR (out), LSR (in)

## CU2
designator U?
Combinational Logic for 2-Bit Up-Counter using Look-Up Table; FPGAVendor: Lattice; Published: 4-May-2007; Publisher: Altium Limited; HelpURL: http://www.latticesemi.com/lit/docs/manuals/library.pdf
pins: CI (in), CO (out), NC0 (out), NC1 (out), PC0 (in), PC1 (in)

## CU4
designator U?
Combinational Logic for 4-Bit Up-Counter using Look-Up Table; FPGAVendor: Lattice; Published: 4-May-2007; Publisher: Altium Limited; HelpURL: http://www.latticesemi.com/lit/docs/manuals/library.pdf
pins: CI (in), CO (out), NC0 (out), NC1 (out), NC2 (out), NC3 (out), PC0 (in), PC1 (in), PC2 (in), PC3 (in)

## CU4P3BX
designator U?
4 Bit Positive Edge Triggered Fast Up-Counter with Positive Clock Enable and Positive Asynchronous Preset; FPGAVendor: Lattice; Published: 4-May-2007; Publisher: Altium Limited; HelpURL: http://www.latticesemi.com/lit/docs/manuals/library.pdf
pins: CI (in), CK (in), CO (out), PD (in), Q0 (out), Q1 (out), Q2 (out), Q3 (out), SP (in)

## CU4P3DX
designator U?
4 Bit Positive Edge Triggered Fast Up-Counter with Positive Clock Enable and Positive Asynchronous Clear; FPGAVendor: Lattice; Published: 4-May-2007; Publisher: Altium Limited; HelpURL: http://www.latticesemi.com/lit/docs/manuals/library.pdf
pins: CD (in), CI (in), CK (in), CO (out), Q0 (out), Q1 (out), Q2 (out), Q3 (out), SP (in)

## CU4P3IX
designator U?
4 Bit Positive Edge Triggered Fast Up-Counter with Positive Clock Enable and Positive Synchronous Clear; FPGAVendor: Lattice; Published: 4-May-2007; Publisher: Altium Limited; HelpURL: http://www.latticesemi.com/lit/docs/manuals/library.pdf
pins: CD (in), CI (in), CK (in), CO (out), Q0 (out), Q1 (out), Q2 (out), Q3 (out), SP (in)

## CU4P3JX
designator U?
4 Bit Positive Edge Triggered Fast Up-Counter with Positive Clock Enable and Positive Synchronous Preset; FPGAVendor: Lattice; Published: 4-May-2007; Publisher: Altium Limited; HelpURL: http://www.latticesemi.com/lit/docs/manuals/library.pdf
pins: CI (in), CK (in), CO (out), PD (in), Q0 (out), Q1 (out), Q2 (out), Q3 (out), SP (in)

## CU8P3BX
designator U?
8 Bit Positive Edge Triggered Fast Up-Counter with Positive Clock Enable and Positive Asynchronous Preset; FPGAVendor: Lattice; Published: 4-May-2007; Publisher: Altium Limited; HelpURL: http://www.latticesemi.com/lit/docs/manuals/library.pdf
pins: CI (in), CK (in), CO (out), PD (in), Q0 (out), Q1 (out), Q2 (out), Q3 (out), Q4 (out), Q5 (out), Q6 (out), Q7 (out), SP (in)

## CU8P3DX
designator U?
8 Bit Positive Edge Triggered Fast Up-Counter with Positive Clock Enable and Positive Asynchronous Clear; FPGAVendor: Lattice; Published: 4-May-2007; Publisher: Altium Limited; HelpURL: http://www.latticesemi.com/lit/docs/manuals/library.pdf
pins: CD (in), CI (in), CK (in), CO (out), Q0 (out), Q1 (out), Q2 (out), Q3 (out), Q4 (out), Q5 (out), Q6 (out), Q7 (out), SP (in)

## CU8P3IX
designator U?
8 Bit Positive Edge Triggered Fast Up-Counter with Positive Clock Enable and Positive Synchronous Clear; FPGAVendor: Lattice; Published: 4-May-2007; Publisher: Altium Limited; HelpURL: http://www.latticesemi.com/lit/docs/manuals/library.pdf
pins: CD (in), CI (in), CK (in), CO (out), Q0 (out), Q1 (out), Q2 (out), Q3 (out), Q4 (out), Q5 (out), Q6 (out), Q7 (out), SP (in)

## CU8P3JX
designator U?
8 Bit Positive Edge Triggered Fast Up-Counter with Positive Clock Enable and Positive Synchronous Preset; FPGAVendor: Lattice; Published: 4-May-2007; Publisher: Altium Limited; HelpURL: http://www.latticesemi.com/lit/docs/manuals/library.pdf
pins: CI (in), CK (in), CO (out), PD (in), Q0 (out), Q1 (out), Q2 (out), Q3 (out), Q4 (out), Q5 (out), Q6 (out), Q7 (out), SP (in)

## DCE32X4
designator U?
32 Word by 4 Bit Negative Edge Triggered Write Synchronous Dual Port Memory with a Positive Write Enable and Two Positive Write Port Enables; FPGAVendor: Lattice; Published: 4-May-2007; Publisher: Altium Limited; HelpURL: http://www.latticesemi.com/lit/docs/manuals/library.pdf
pins: CK (in), DI0 (in), DI1 (in), DI2 (in), DI3 (in), DO0 (out), DO1 (out), DO2 (out), DO3 (out), QDO0 (out), QDO1 (out), QDO2 (out), QDO3 (out), RAD0 (in), RAD1 (in), RAD2 (in), RAD3 (in), RAD4 (in), WAD0 (in), WAD1 (in), WAD2 (in), WAD3 (in), WAD4 (in), WPE0 (in), WPE1 (in), WREN (in)

## DCS
designator U?
Dynamic Clock Selection Multiplexer; FPGAVendor: Lattice; Published: 4-May-2007; Publisher: Altium Limited; HelpURL: http://www.latticesemi.com/lit/docs/manuals/library.pdf
pins: CLK0 (in), CLK1 (in), DCSOUT (out), SEL (in)

## DELAY
designator U?
Delay; FPGAVendor: Lattice; Published: 4-May-2007; Publisher: Altium Limited; HelpURL: http://www.latticesemi.com/lit/docs/manuals/library.pdf
pins: A (in), DCNTL0 (in), DCNTL1 (in), DCNTL2 (in), DCNTL3 (in), DCNTL4 (in), DCNTL5 (in), DCNTL6 (in), DCNTL7 (in), DCNTL8 (in), Z (out)

## DLL1XB
designator U?
Programmable Clock Manager (Delay Locked Loop) — Bottom; FPGAVendor: Lattice; Published: 4-May-2007; Publisher: Altium Limited; HelpURL: http://www.latticesemi.com/lit/docs/manuals/library.pdf
pins: CLKIN (in), ECLK (out), LOCK (out), SCLK (out)

## DLL1XT
designator U?
Programmable Clock Manager (Delay Locked Loop) — Top; FPGAVendor: Lattice; Published: 4-May-2007; Publisher: Altium Limited; HelpURL: http://www.latticesemi.com/lit/docs/manuals/library.pdf
pins: CLKIN (in), ECLK (out), LOCK (out), SCLK (out)

## DLLPDB
designator U?
Programmable Clock Manager (Programmable Delay, Delay Locked Loop) — Bottom; FPGAVendor: Lattice; Published: 4-May-2007; Publisher: Altium Limited; HelpURL: http://www.latticesemi.com/lit/docs/manuals/library.pdf
pins: CLKIN (in), ECLK (out), LOCK (out), SCLK (out)

## DLLPDT
designator U?
Programmable Clock Manager (Programmable Delay, Delay Locked Loop) — Top; FPGAVendor: Lattice; Published: 4-May-2007; Publisher: Altium Limited; HelpURL: http://www.latticesemi.com/lit/docs/manuals/library.pdf
pins: CLKIN (in), ECLK (out), LOCK (out), SCLK (out)

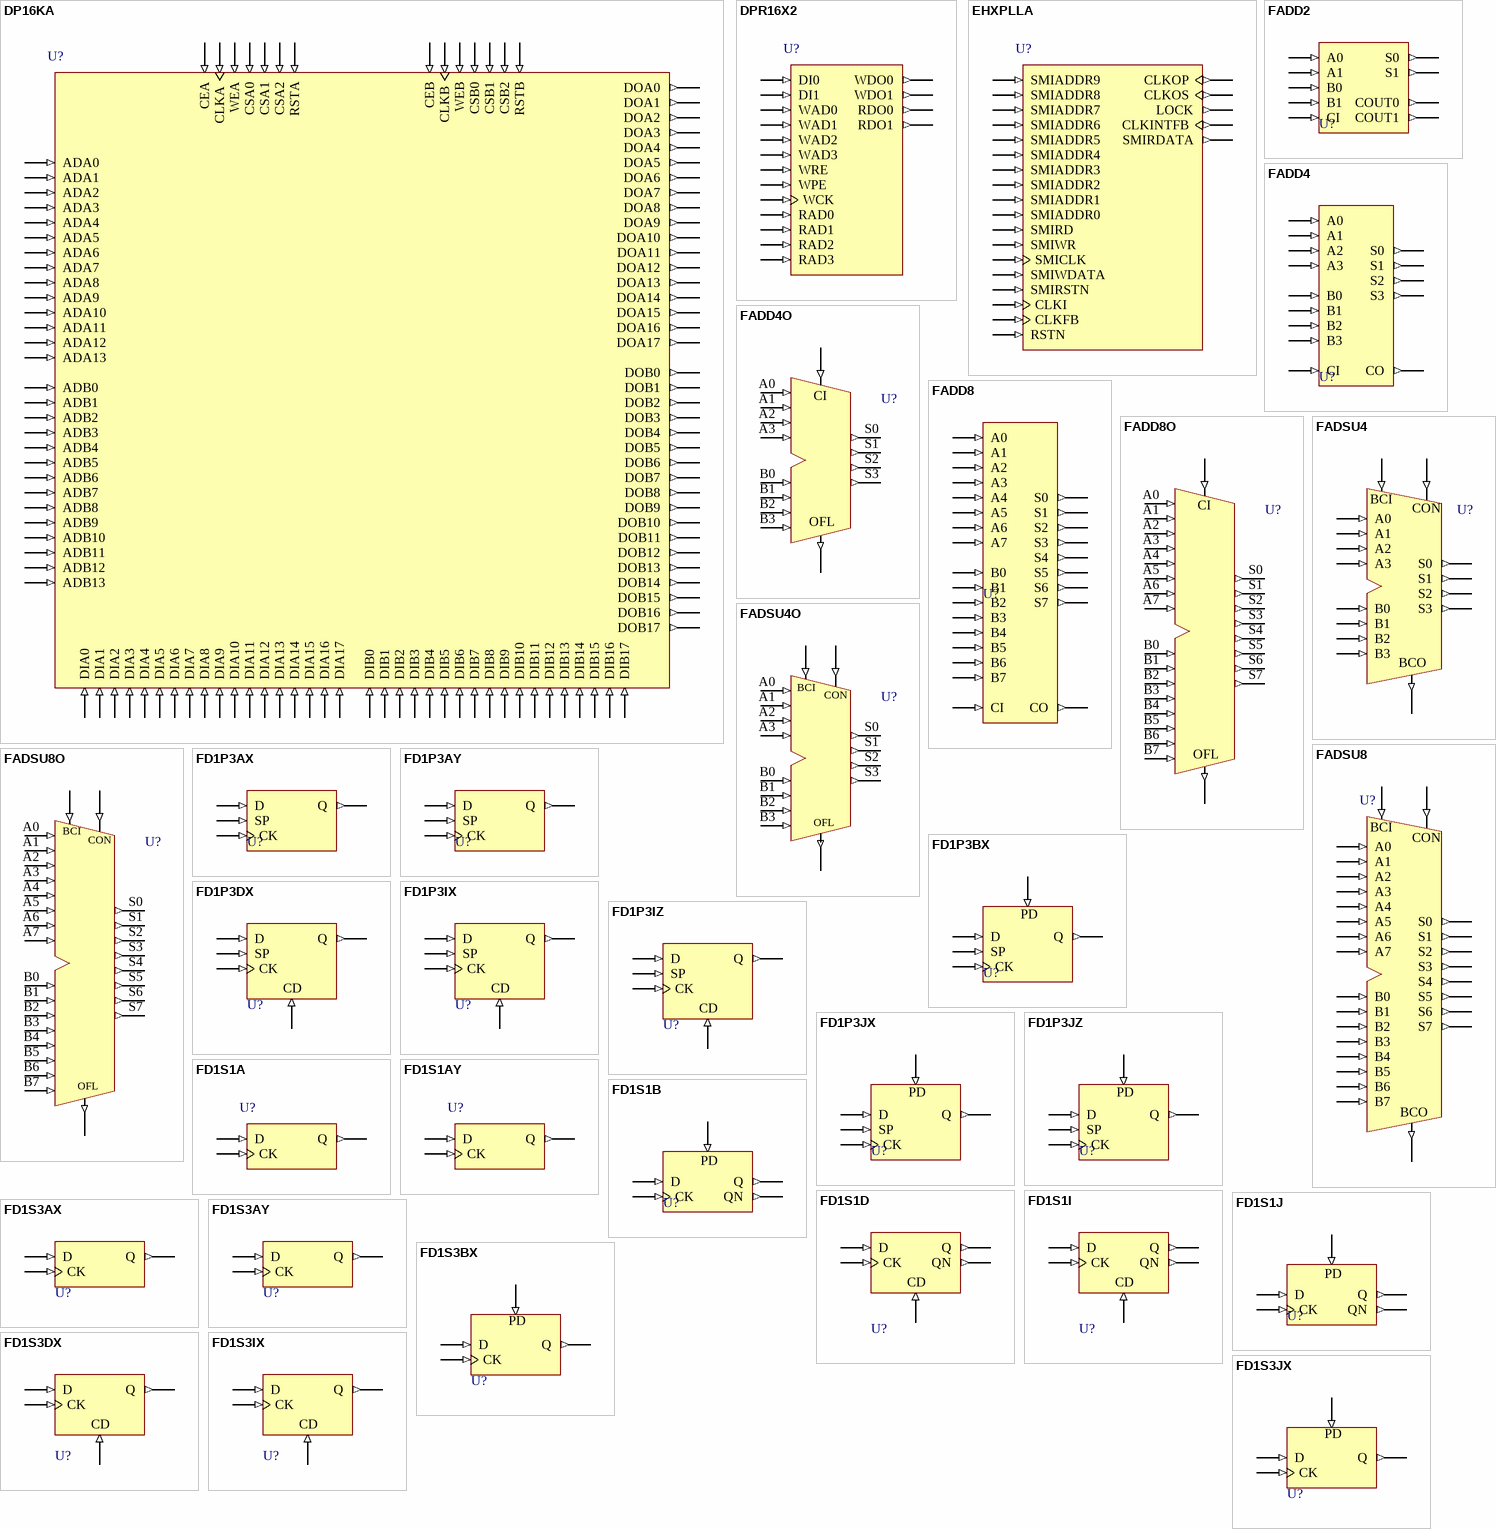
[diagram p3: symbols DP16KA to FD1S3JX]

## DP16KA
designator U?
16K Dual Port Block RAM; FPGAVendor: Lattice; Published: 4-May-2007; Publisher: Altium Limited; HelpURL: http://www.latticesemi.com/lit/docs/manuals/library.pdf
pins: ADA0 (in), ADA1 (in), ADA2 (in), ADA3 (in), ADA4 (in), ADA5 (in), ADA6 (in), ADA7 (in), ADA8 (in), ADA9 (in), ADA10 (in), ADA11 (in), ADA12 (in), ADA13 (in), ADB0 (in), ADB1 (in), ADB2 (in), ADB3 (in), ADB4 (in), ADB5 (in), ADB6 (in), ADB7 (in), ADB8 (in), ADB9 (in), ADB10 (in), ADB11 (in), ADB12 (in), ADB13 (in), CEA (in), CEB (in), CLKA (in), CLKB (in), CSA0 (in), CSA1 (in), CSA2 (in), CSB0 (in), CSB1 (in), CSB2 (in), DIA0 (in), DIA1 (in), DIA2 (in), DIA3 (in), DIA4 (in), DIA5 (in), DIA6 (in), DIA7 (in), DIA8 (in), DIA9 (in), DIA10 (in), DIA11 (in), DIA12 (in), DIA13 (in), DIA14 (in), DIA15 (in), DIA16 (in), DIA17 (in), DIB0 (in), DIB1 (in), DIB2 (in), DIB3 (in), DIB4 (in), DIB5 (in), DIB6 (in), DIB7 (in), DIB8 (in), DIB9 (in), DIB10 (in), DIB11 (in), DIB12 (in), DIB13 (in), DIB14 (in), DIB15 (in), DIB16 (in), DIB17 (in), DOA0 (out), DOA1 (out), DOA2 (out), DOA3 (out), DOA4 (out), DOA5 (out), DOA6 (out), DOA7 (out), DOA8 (out), DOA9 (out), DOA10 (out), DOA11 (out), DOA12 (out), DOA13 (out), DOA14 (out), DOA15 (out), DOA16 (out), DOA17 (out), DOB0 (out), DOB1 (out), DOB2 (out), DOB3 (out), DOB4 (out), DOB5 (out), DOB6 (out), DOB7 (out), DOB8 (out), DOB9 (out), DOB10 (out), DOB11 (out), DOB12 (out), DOB13 (out), DOB14 (out), DOB15 (out), DOB16 (out), DOB17 (out), RSTA (in), RSTB (in), WEA (in), WEB (in)

## DPR16X2
designator U?
16 Word by 2 Dual Port RAM (within PFU); FPGAVendor: Lattice; Published: 4-May-2007; Publisher: Altium Limited; HelpURL: http://www.latticesemi.com/lit/docs/manuals/library.pdf
pins: DI0 (in), DI1 (in), RAD0 (in), RAD1 (in), RAD2 (in), RAD3 (in), RDO0 (out), RDO1 (out), WAD0 (in), WAD1 (in), WAD2 (in), WAD3 (in), WCK (in), WDO0 (out), WDO1 (out), WPE (in), WRE (in)

## EHXPLLA
designator U?
Enhanced High Performance with Dynamic Input Delay Control PLL; FPGAVendor: Lattice; Published: 4-May-2007; Publisher: Altium Limited; HelpURL: http://www.latticesemi.com/lit/docs/manuals/library.pdf
pins: CLKFB (in), CLKI (in), CLKINTFB (out), CLKOP (out), CLKOS (out), LOCK (out), RSTN (in), SMIADDR0 (in), SMIADDR1 (in), SMIADDR2 (in), SMIADDR3 (in), SMIADDR4 (in), SMIADDR5 (in), SMIADDR6 (in), SMIADDR7 (in), SMIADDR8 (in), SMIADDR9 (in), SMICLK (in), SMIRD (in), SMIRDATA (out), SMIRSTN (in), SMIWDATA (in), SMIWR (in)

## FADD2
designator U?
2 Bit Fast Adder; FPGAVendor: Lattice; Published: 4-May-2007; Publisher: Altium Limited; HelpURL: http://www.latticesemi.com/lit/docs/manuals/library.pdf
pins: A0 (in), A1 (in), B0 (in), B1 (in), CI (in), COUT0 (out), COUT1 (out), S0 (out), S1 (out)

## FADD4
designator U?
4 Bit Fast Adder; FPGAVendor: Lattice; Published: 4-May-2007; Publisher: Altium Limited; HelpURL: http://www.latticesemi.com/lit/docs/manuals/library.pdf
pins: A0 (in), A1 (in), A2 (in), A3 (in), B0 (in), B1 (in), B2 (in), B3 (in), CI (in), CO (out), S0 (out), S1 (out), S2 (out), S3 (out)

## FADD4O
designator U?
4 Bit Fast Adder with Overflow; FPGAVendor: Lattice; Published: 4-May-2007; Publisher: Altium Limited; HelpURL: http://www.latticesemi.com/lit/docs/manuals/library.pdf
pins: A0 (in), A1 (in), A2 (in), A3 (in), B0 (in), B1 (in), B2 (in), B3 (in), CI (in), OFL (out), S0 (out), S1 (out), S2 (out), S3 (out)

## FADD8
designator U?
8 Bit Fast Adder; FPGAVendor: Lattice; Published: 4-May-2007; Publisher: Altium Limited; HelpURL: http://www.latticesemi.com/lit/docs/manuals/library.pdf
pins: A0 (in), A1 (in), A2 (in), A3 (in), A4 (in), A5 (in), A6 (in), A7 (in), B0 (in), B1 (in), B2 (in), B3 (in), B4 (in), B5 (in), B6 (in), B7 (in), CI (in), CO (out), S0 (out), S1 (out), S2 (out), S3 (out), S4 (out), S5 (out), S6 (out), S7 (out)

## FADD8O
designator U?
8 Bit Fast Adder with Overflow; FPGAVendor: Lattice; Published: 4-May-2007; Publisher: Altium Limited; HelpURL: http://www.latticesemi.com/lit/docs/manuals/library.pdf
pins: A0 (in), A1 (in), A2 (in), A3 (in), A4 (in), A5 (in), A6 (in), A7 (in), B0 (in), B1 (in), B2 (in), B3 (in), B4 (in), B5 (in), B6 (in), B7 (in), CI (in), OFL (out), S0 (out), S1 (out), S2 (out), S3 (out), S4 (out), S5 (out), S6 (out), S7 (out)

## FADSU4
designator U?
4 Bit Fast Adder/Subtracter (two’s complement); FPGAVendor: Lattice; Published: 4-May-2007; Publisher: Altium Limited; HelpURL: http://www.latticesemi.com/lit/docs/manuals/library.pdf
pins: A0 (in), A1 (in), A2 (in), A3 (in), B0 (in), B1 (in), B2 (in), B3 (in), BCI (in), BCO (out), CON (in), S0 (out), S1 (out), S2 (out), S3 (out)

## FADSU4O
designator U?
4 Bit Fast Adder/Subtracter (two’s complement) with Overflow; FPGAVendor: Lattice; Published: 4-May-2007; Publisher: Altium Limited; HelpURL: http://www.latticesemi.com/lit/docs/manuals/library.pdf
pins: A0 (in), A1 (in), A2 (in), A3 (in), B0 (in), B1 (in), B2 (in), B3 (in), BCI (in), CON (in), OFL (out), S0 (out), S1 (out), S2 (out), S3 (out)

## FADSU8
designator U?
8 Bit Fast Adder/Subtracter (two’s complement); FPGAVendor: Lattice; Published: 4-May-2007; Publisher: Altium Limited; HelpURL: http://www.latticesemi.com/lit/docs/manuals/library.pdf
pins: A0 (in), A1 (in), A2 (in), A3 (in), A4 (in), A5 (in), A6 (in), A7 (in), B0 (in), B1 (in), B2 (in), B3 (in), B4 (in), B5 (in), B6 (in), B7 (in), BCI (in), BCO (out), CON (in), S0 (out), S1 (out), S2 (out), S3 (out), S4 (out), S5 (out), S6 (out), S7 (out)

## FADSU8O
designator U?
8 Bit Fast Adder/Subtracter (two’s complement) with Overflow; FPGAVendor: Lattice; Published: 4-May-2007; Publisher: Altium Limited; HelpURL: http://www.latticesemi.com/lit/docs/manuals/library.pdf
pins: A0 (in), A1 (in), A2 (in), A3 (in), A4 (in), A5 (in), A6 (in), A7 (in), B0 (in), B1 (in), B2 (in), B3 (in), B4 (in), B5 (in), B6 (in), B7 (in), BCI (in), CON (in), OFL (out), S0 (out), S1 (out), S2 (out), S3 (out), S4 (out), S5 (out), S6 (out), S7 (out)

## FD1P3AX
designator U?
Positive Edge Triggered D Flip-Flop with Positive Level Enable, GSR used for Clear; FPGAVendor: Lattice; Published: 4-May-2007; Publisher: Altium Limited; HelpURL: http://www.latticesemi.com/lit/docs/manuals/library.pdf
pins: CK (in), D (in), Q (out), SP (in)

## FD1P3AY
designator U?
Positive Edge Triggered D Flip-Flop with Positive Level Enable, GSR used for Preset; FPGAVendor: Lattice; Published: 4-May-2007; Publisher: Altium Limited; HelpURL: http://www.latticesemi.com/lit/docs/manuals/library.pdf
pins: CK (in), D (in), Q (out), SP (in)

## FD1P3BX
designator U?
Positive Edge Triggered D Flip-Flop with Positive Level Enable and Positive Level Asynchronous Preset; FPGAVendor: Lattice; Published: 4-May-2007; Publisher: Altium Limited; HelpURL: http://www.latticesemi.com/lit/docs/manuals/library.pdf
pins: CK (in), D (in), PD (in), Q (out), SP (in)

## FD1P3DX
designator U?
Positive Edge Triggered D Flip-Flop with Positive Level Enable and Positive Level Asynchronous Clear; FPGAVendor: Lattice; Published: 4-May-2007; Publisher: Altium Limited; HelpURL: http://www.latticesemi.com/lit/docs/manuals/library.pdf
pins: CD (in), CK (in), D (in), Q (out), SP (in)

## FD1P3IX
designator U?
Positive Edge Triggered D Flip-Flop with Positive Level Synchronous Clear and Positive Level Enable (Clear overrides Enable); FPGAVendor: Lattice; Published: 4-May-2007; Publisher: Altium Limited; HelpURL: http://www.latticesemi.com/lit/docs/manuals/library.pdf
pins: CD (in), CK (in), D (in), Q (out), SP (in)

## FD1P3IZ
designator U?
Positive Edge Triggered D Flip-Flop with Positive Level Synchronous Clear and Positive Level Enable (Enable overrides Clear); FPGAVendor: Lattice; Published: 4-May-2007; Publisher: Altium Limited; HelpURL: http://www.latticesemi.com/lit/docs/manuals/library.pdf
pins: CD (in), CK (in), D (in), Q (out), SP (in)

## FD1P3JX
designator U?
Positive Edge Triggered D Flip-Flop with Positive Level Synchronous Preset and Positive Level Enable (Preset overrides Enable); FPGAVendor: Lattice; Published: 4-May-2007; Publisher: Altium Limited; HelpURL: http://www.latticesemi.com/lit/docs/manuals/library.pdf
pins: CK (in), D (in), PD (in), Q (out), SP (in)

## FD1P3JZ
designator U?
Positive Edge Triggered D Flip-Flop with Positive Level Synchronous Preset and Positive Level Enable (Preset overrides Enable); FPGAVendor: Lattice; Published: 4-May-2007; Publisher: Altium Limited; HelpURL: http://www.latticesemi.com/lit/docs/manuals/library.pdf
pins: CK (in), D (in), PD (in), Q (out), SP (in)

## FD1S1A
designator U?
Positive Level Data Latch with GSR Used for Clear; FPGAVendor: Lattice; Published: 4-May-2007; Publisher: Altium Limited; HelpURL: http://www.latticesemi.com/lit/docs/manuals/library.pdf
pins: CK (in), D (in), Q (out)

## FD1S1AY
designator U?
Positive Level Data Latch with GSR Used for Preset; FPGAVendor: Lattice; Published: 4-May-2007; Publisher: Altium Limited; HelpURL: http://www.latticesemi.com/lit/docs/manuals/library.pdf
pins: CK (in), D (in), Q (out)

## FD1S1B
designator U?
Positive Level Data Latch with Positive Level Asynchronous Preset; FPGAVendor: Lattice; Published: 4-May-2007; Publisher: Altium Limited; HelpURL: http://www.latticesemi.com/lit/docs/manuals/library.pdf
pins: CK (in), D (in), PD (in), Q (out), QN (out)

## FD1S1D
designator U?
Positive Level Data Latch with Positive Level Asynchronous Clear; FPGAVendor: Lattice; Published: 4-May-2007; Publisher: Altium Limited; HelpURL: http://www.latticesemi.com/lit/docs/manuals/library.pdf
pins: CD (in), CK (in), D (in), Q (out), QN (out)

## FD1S1I
designator U?
Positive Level Data Latch with Positive Level Synchronous Clear; FPGAVendor: Lattice; Published: 4-May-2007; Publisher: Altium Limited; HelpURL: http://www.latticesemi.com/lit/docs/manuals/library.pdf
pins: CD (in), CK (in), D (in), Q (out), QN (out)

## FD1S1J
designator U?
Positive Level Data Latch with Positive Level Synchronous Preset; FPGAVendor: Lattice; Published: 4-May-2007; Publisher: Altium Limited; HelpURL: http://www.latticesemi.com/lit/docs/manuals/library.pdf
pins: CK (in), D (in), PD (in), Q (out), QN (out)

## FD1S3AX
designator U?
Positive Edge Triggered D Flip-Flop, GSR Used for Clear; FPGAVendor: Lattice; Published: 4-May-2007; Publisher: Altium Limited; HelpURL: http://www.latticesemi.com/lit/docs/manuals/library.pdf
pins: CK (in), D (in), Q (out)

## FD1S3AY
designator U?
Positive Edge Triggered D Flip-Flop, GSR Used for Preset; FPGAVendor: Lattice; Published: 4-May-2007; Publisher: Altium Limited; HelpURL: http://www.latticesemi.com/lit/docs/manuals/library.pdf
pins: CK (in), D (in), Q (out)

## FD1S3BX
designator U?
Positive Edge Triggered D Flip-Flop with Positive Level Asynchronous Preset; FPGAVendor: Lattice; Published: 4-May-2007; Publisher: Altium Limited; HelpURL: http://www.latticesemi.com/lit/docs/manuals/library.pdf
pins: CK (in), D (in), PD (in), Q (out)

## FD1S3DX
designator U?
Positive Edge Triggered D Flip-Flop with Positive Level Asynchronous Clear; FPGAVendor: Lattice; Published: 4-May-2007; Publisher: Altium Limited; HelpURL: http://www.latticesemi.com/lit/docs/manuals/library.pdf
pins: CD (in), CK (in), D (in), Q (out)

## FD1S3IX
designator U?
Positive Edge Triggered D Flip-Flop with Positive Level Synchronous Clear; FPGAVendor: Lattice; Published: 4-May-2007; Publisher: Altium Limited; HelpURL: http://www.latticesemi.com/lit/docs/manuals/library.pdf
pins: CD (in), CK (in), D (in), Q (out)

## FD1S3JX
designator U?
Positive Edge Triggered D Flip-Flop with Positive Level Synchronous Preset; FPGAVendor: Lattice; Published: 4-May-2007; Publisher: Altium Limited; HelpURL: http://www.latticesemi.com/lit/docs/manuals/library.pdf
pins: CK (in), D (in), PD (in), Q (out)

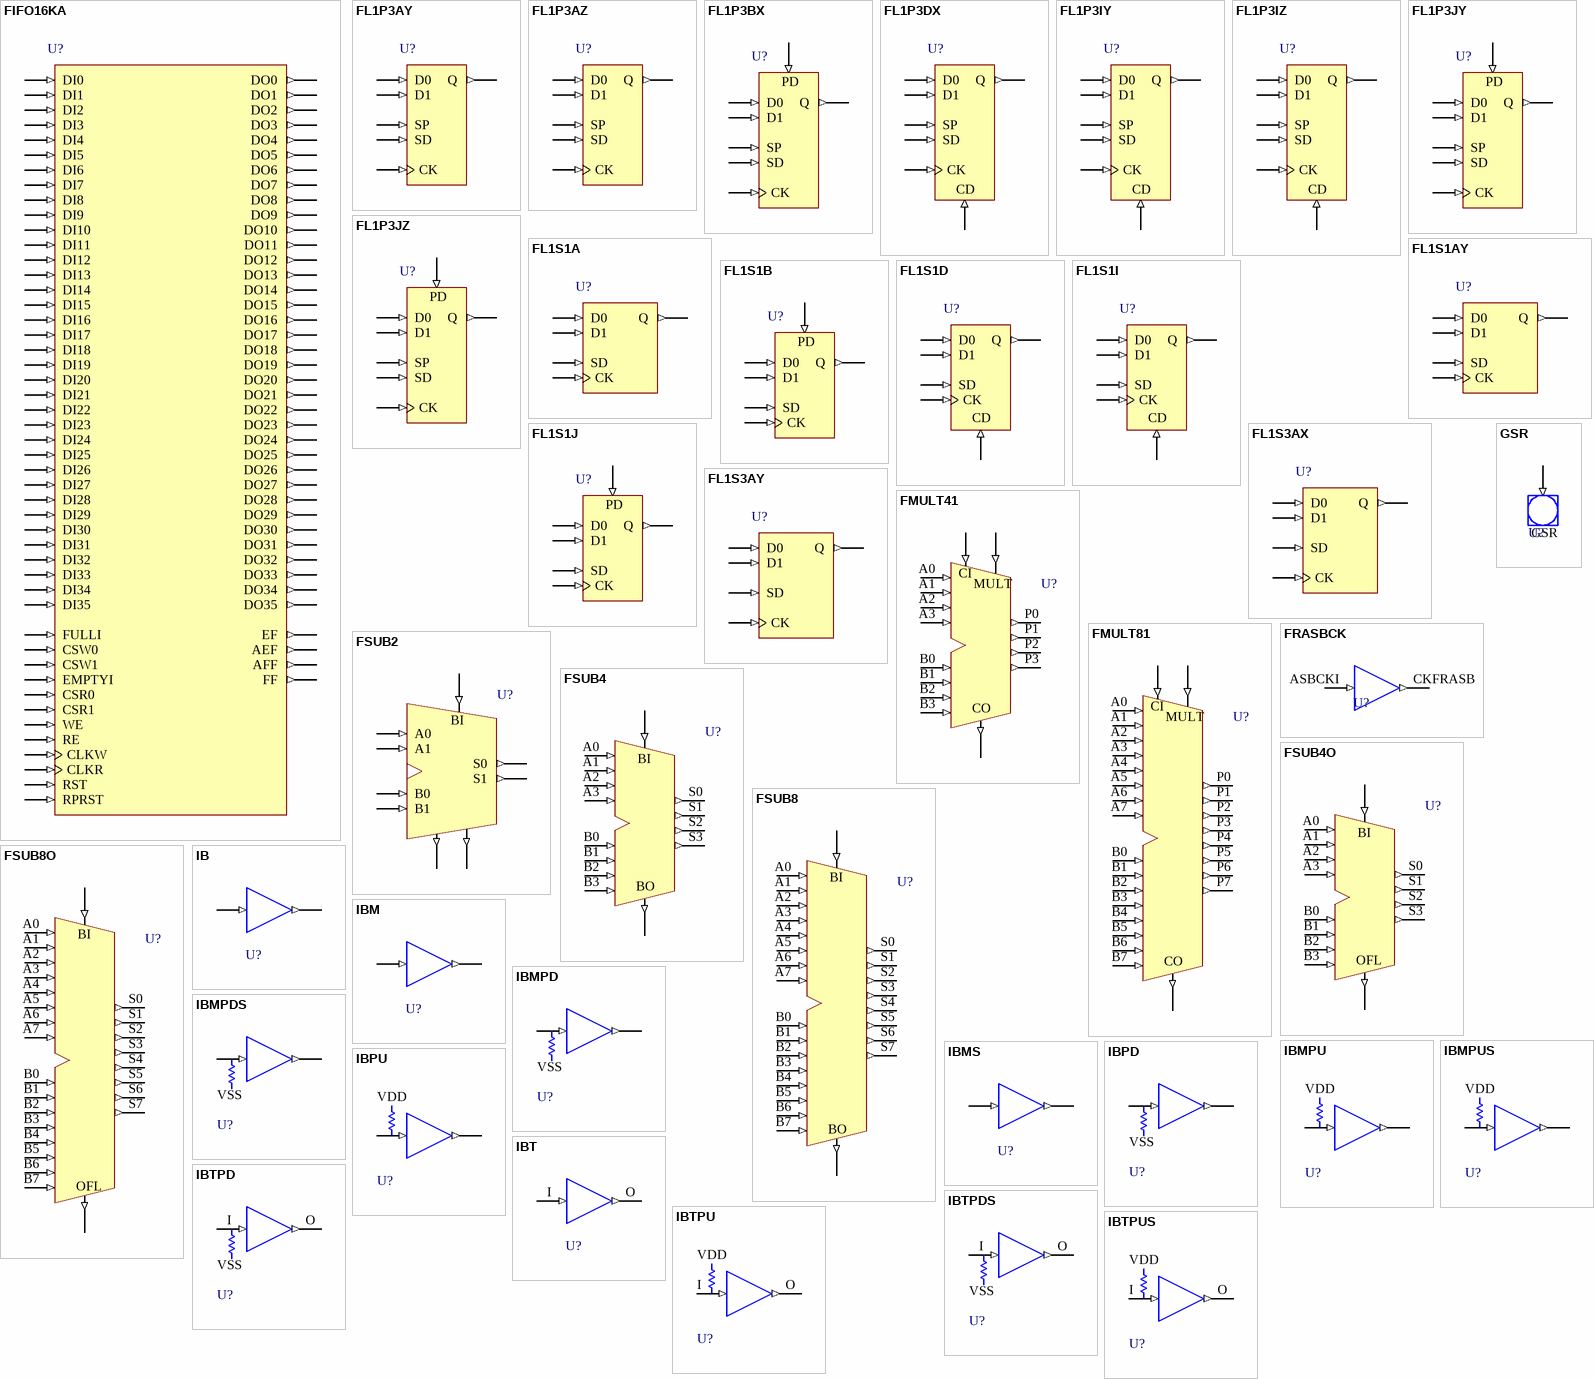
[diagram p4: symbols FIFO16KA to IBTPUS]

## FIFO16KA
designator U?
16K FIFO; FPGAVendor: Lattice; Published: 4-May-2007; Publisher: Altium Limited; HelpURL: http://www.latticesemi.com/lit/docs/manuals/library.pdf
pins: AEF (out), AFF (out), CLKR (in), CLKW (in), CSR0 (in), CSR1 (in), CSW0 (in), CSW1 (in), DI0 (in), DI1 (in), DI2 (in), DI3 (in), DI4 (in), DI5 (in), DI6 (in), DI7 (in), DI8 (in), DI9 (in), DI10 (in), DI11 (in), DI12 (in), DI13 (in), DI14 (in), DI15 (in), DI16 (in), DI17 (in), DI18 (in), DI19 (in), DI20 (in), DI21 (in), DI22 (in), DI23 (in), DI24 (in), DI25 (in), DI26 (in), DI27 (in), DI28 (in), DI29 (in), DI30 (in), DI31 (in), DI32 (in), DI33 (in), DI34 (in), DI35 (in), DO0 (out), DO1 (out), DO2 (out), DO3 (out), DO4 (out), DO5 (out), DO6 (out), DO7 (out), DO8 (out), DO9 (out), DO10 (out), DO11 (out), DO12 (out), DO13 (out), DO14 (out), DO15 (out), DO16 (out), DO17 (out), DO18 (out), DO19 (out), DO20 (out), DO21 (out), DO22 (out), DO23 (out), DO24 (out), DO25 (out), DO26 (out), DO27 (out), DO28 (out), DO29 (out), DO30 (out), DO31 (out), DO32 (out), DO33 (out), DO34 (out), DO35 (out), EF (out), EMPTYI (in), FF (out), FULLI (in), RE (in), RPRST (in), RST (in), WE (in)

## FL1P3AY
designator U?
Positive Edge Triggered D Flip-Flop with 2 Input Data Mux, Positive Level Data Select, and Positive Level Enable, GSR used for Preset; FPGAVendor: Lattice; Published: 4-May-2007; Publisher: Altium Limited; HelpURL: http://www.latticesemi.com/lit/docs/manuals/library.pdf
pins: CK (in), D0 (in), D1 (in), Q (out), SD (in), SP (in)

## FL1P3AZ
designator U?
Positive Edge Triggered D Flip-Flop with 2 Input Data Mux, Positive Level Data Select, and Positive Level Enable, GSR used for Clear; FPGAVendor: Lattice; Published: 4-May-2007; Publisher: Altium Limited; HelpURL: http://www.latticesemi.com/lit/docs/manuals/library.pdf
pins: CK (in), D0 (in), D1 (in), Q (out), SD (in), SP (in)

## FL1P3BX
designator U?
Positive Edge Triggered D Flip-Flop with 2 Input Data Mux, Positive Level Data Select, Positive Level Asynchronous Preset, and Positive Level Enable; FPGAVendor: Lattice; Published: 4-May-2007; Publisher: Altium Limited; HelpURL: http://www.latticesemi.com/lit/docs/manuals/library.pdf
pins: CK (in), D0 (in), D1 (in), PD (in), Q (out), SD (in), SP (in)